# Altium footprint library PCB - LEADLESS - DFN - MAXIM TDFN-10 T1034N-1.PCBLIB: 1 footprints
Each footprint in its own frame and in the unit in brackets; x right, y up, seen from the top. Pads: shape width x height; smd on the part's side, far side on the other; paste and mask are expansions set on the pad; w line width, h text height; cw(c..) or ccw(c..) is an arc to the next point about the centre after c.
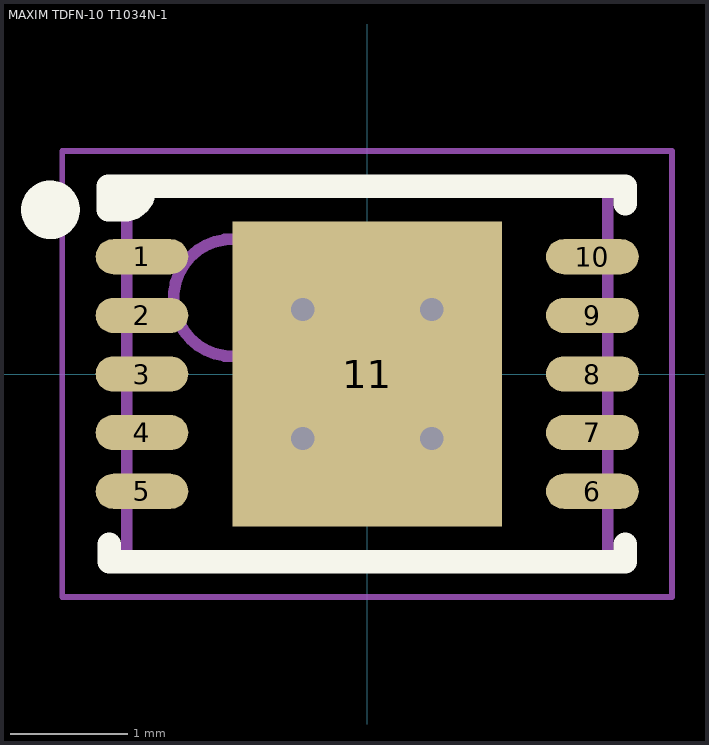
[diagram p0: the footprint, top view; thin cyan lines are the x and y axes]

## MAXIM TDFN-10 T1034N-1 [mm] "DFN, 10-Leads, Body 4.00x3.00mm, Pitch 0.50mm, Thermal Pad 2.30x2.60mm, IPC Medium Density"
height 0.8
pads (11):
  oval 0.79x0.3 smd: 1(-1.92,1) 2(-1.92,0.5) 3(-1.92,0) 4(-1.92,-0.5) 5(-1.92,-1) 6(1.92,-1) 7(1.92,-0.5) 8(1.92,0) 9(1.92,0.5) 10(1.92,1)
  rect 2.3x2.6 smd: 11(0,0)
via 0.55,-0.55 diameter 0.5 hole 0.2
via -0.55,-0.55 diameter 0.5 hole 0.2
via 0.55,0.55 diameter 0.5 hole 0.2
via -0.55,0.55 diameter 0.5 hole 0.2
Top Overlay:
  circle w0.25: c-2.7,1.4 r0.125
  region: -1.9,1.7 -2.2,1.7 -2.2,1.4 -2.1,1.4 -2,1.5
  lines w0.2: -2.2,-1.45 -2.2,-1.6 2.2,-1.6 2.2,-1.45 ; -1.9,1.575 cw(c-2.075,1.575) -2.075,1.4 -2.206,1.4 -2.206,1.6 2.2,1.6 2.2,1.45
Mechanical 13:
  circle w0.1: c-1.15,0.65 r0.5
  lines w0.1: -2.05,-1.55 2.05,-1.55 2.05,1.55 -2.05,1.55 -2.05,-1.55
Mechanical 15:
  lines w0.05: -2.6,-1.9 2.6,-1.9 2.6,1.9 -2.6,1.9 -2.6,-1.9
  lines w0.1: -0.5,0 0.5,0 ; 0,-0.5 0,0.5
3D body: height 0.8, standoff 0.01, extent -2.05,-1.55 2.05,1.55